# EAGLE library part TPS63060 (library power)
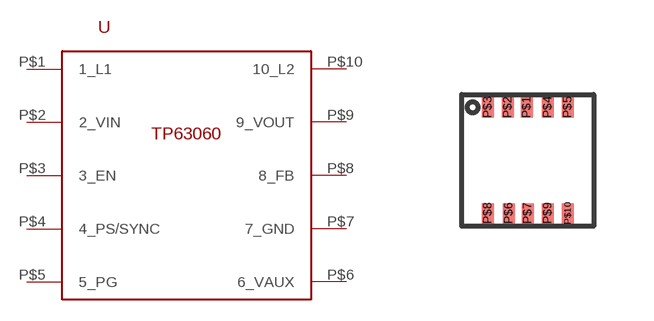
[diagram p2: symbol with the pads of PWSON; footprint PWSON]

Designator prefix -

## TPS63060  [PWSON]
P$1  1_L1
P$2  2_VIN
P$3  3_EN
P$4  4_PS/SYNC
P$5  5_PG
P$6  6_VAUX
P$7  7_GND
P$8  8_FB
P$9  9_VOUT
P$10  10_L2

## Footprint PWSON (pad centres in mm)
smd 0.3 x 0.5: P$1 -0.025,1.325; P$2 -0.5,1.325; P$3 -1,1.325; P$4 0.5,1.325; P$5 1,1.325; P$6 -0.475,-1.325; P$7 0,-1.325; P$8 -1,-1.325; P$9 0.5,-1.325; P$10 1,-1.325